# Altium schematic symbol library Conn_JST_BM06B-SRSS-TB_LF_SN_eec.SchLib: 1 symbol
Pins are listed as number, name and electrical type; pins without a type are passive.

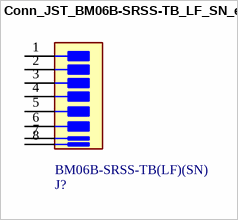
[diagram p0: symbol Conn_JST_BM06B-SRSS-TB_LF_SN_eec]

## Conn_JST_BM06B-SRSS-TB_LF_SN_eec
designator J?  Part Number: BM06B-SRSS-TB(LF)(SN)
CONN 6 Positions Header, Shrouded Connector 0.039" (1.00mm) Surface Mount Tin; Manufacturer: JST; Current Rating: 1.0 A; helpURL: https://upverter.com/upn/revision/d03195e387b60fa6/; ComponentLink2Description: Datasheet; Temperature: -25ºC to +85ºC; Package: HDR06; Supplier 2: Mouser; Price: 0.572027474865; Supplier 1: Digi-Key; ComponentLink1URL: https://upverter.com/upn/revision/d03195e387b60fa6/; Supplier Part Number 1: 455-1792-1-ND; ComponentLink1Description: Upverter; ComponentLink2URL: https://upverter.com/datasheet/fd137f1e6a68b636bfb7f4b659f82aed089961fc.pdf; RoHS: TRUE; Temperature Range High: +85ºC; Digikey Description: CONN 6 Positions Header, Shrouded Connector 0.039" (1.00mm) Surface Mount Tin; Temperature Range Low: -25ºC; Digikey Part Number: 455-1792-1-ND; Lead Free: yes; Contact Finish: Tin; Pitch: 1.00mm
footprint JST_BM06B-SRSS-TB_LF_SN_0
pins: 1, 2, 3, 4, 5, 6, 7 MNT 1, 8 MNT 2